# Altium footprint library PcbLib1.PcbLib: 16 footprints
Each footprint in its own frame and in the unit in brackets; x right, y up, seen from the top. Pads: shape width x height; smd on the part's side, far side on the other; paste and mask are expansions set on the pad; w line width, h text height; cw(c..) or ccw(c..) is an arc to the next point about the centre after c.
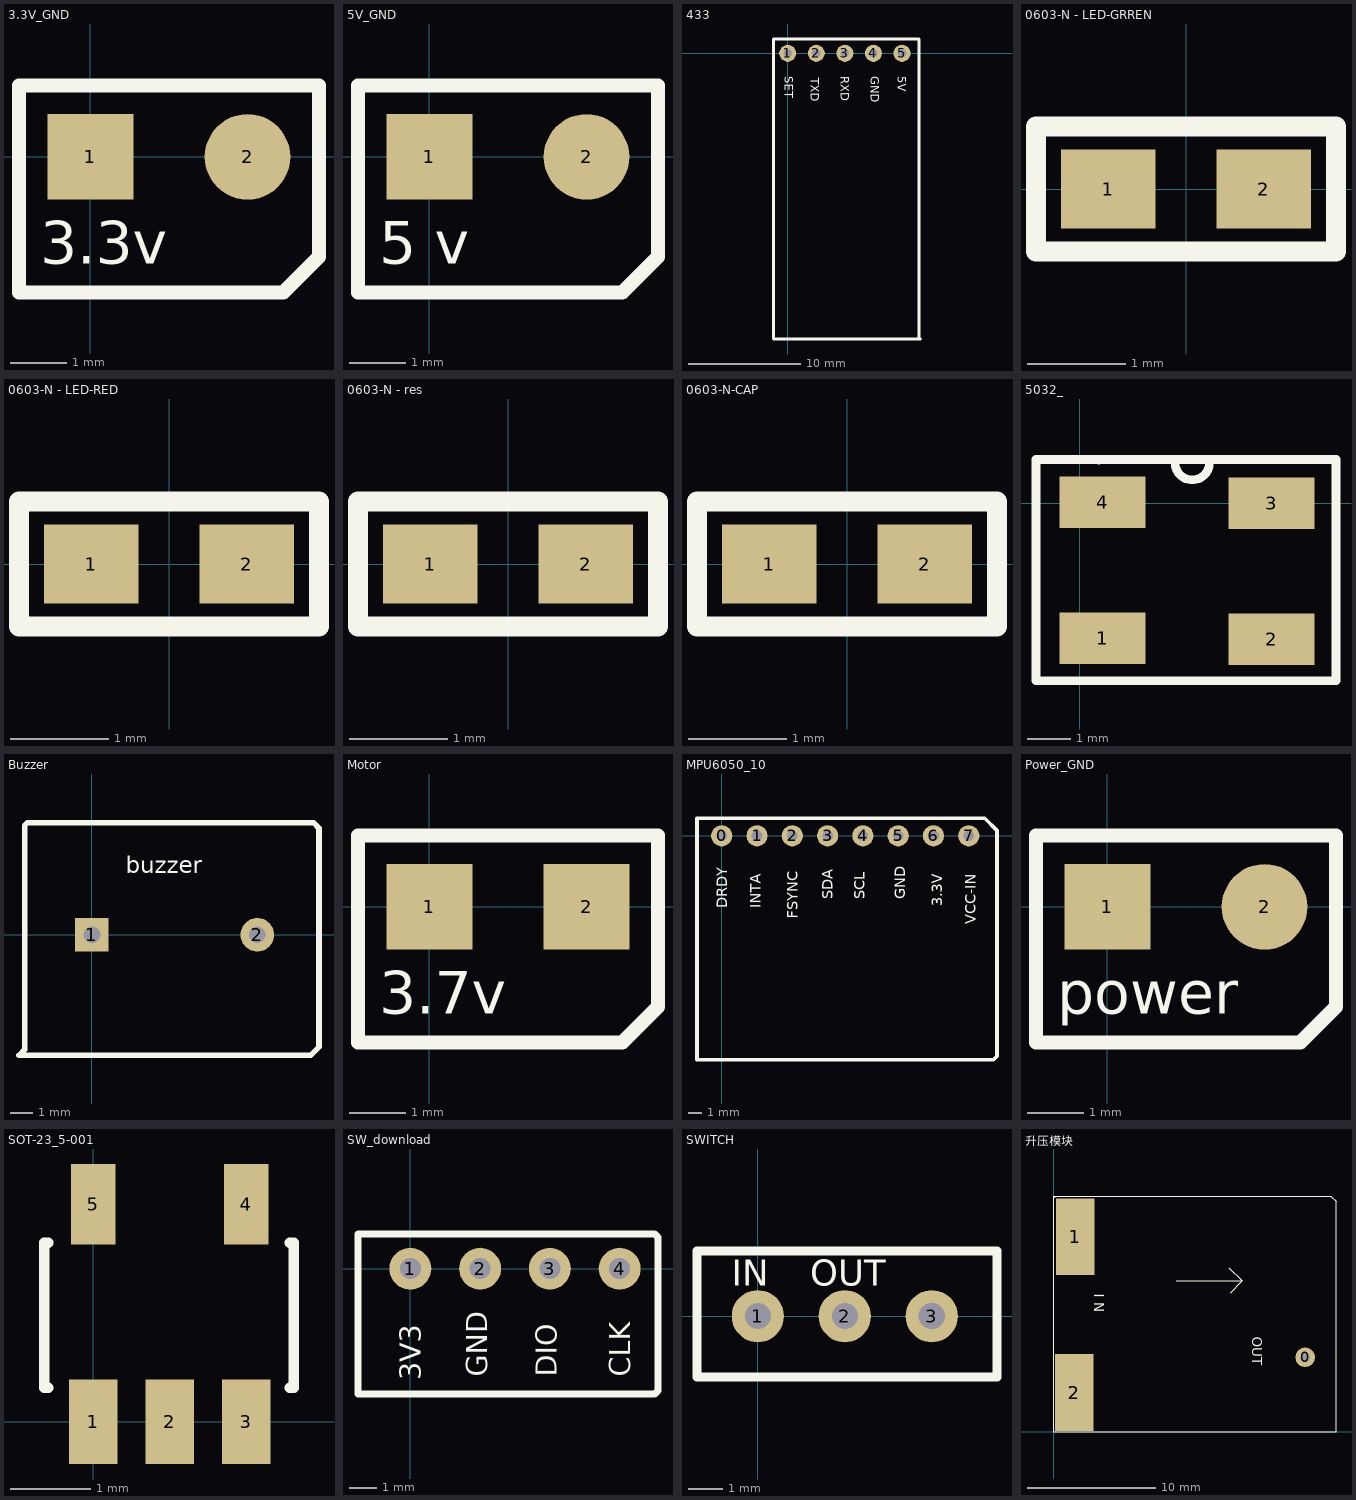
[diagram p0: the footprints below, top view; thin cyan lines are the x and y axes]

## 3.3V_GND [mil]
pads (2):
  rect 60x60 smd: 1(0,0)
  round 60 smd: 2(110,0)
Top Overlay:
  lines w10: -50,-95 -50,50 160,50 160,-70 135,-95 -50,-95
  text "3.3v" at -35,-75 h30

## 5V_GND [mil]
pads (2):
  rect 60x60 smd: 1(0,0)
  round 60 smd: 2(110,0)
Top Overlay:
  lines w10: -50,-95 -50,50 160,50 160,-70 135,-95 -50,-95
  text "5 v" at -35,-75 h30

## 433 [mil]
pads (5):
  round 60 hole 30: 1(0,0) 2(100,0) 3(200,0) 4(300,0) 5(400,0)
Top Overlay:
  lines w10: 460,-1000 460,50 -50,50 -50,-1000 465,-1000
  text "SET" at -10,-80 h30
  text "TXD" at 80,-85 h30
  text "RXD" at 185,-80 h30
  text "GND" at 290,-80 h30
  text "5V" at 385,-80 h30

## 0603-N - LED-GRREN [mm]
pads (2):
  rect 0.96x0.8 smd: 1(-0.79,0) 2(0.79,0)
Top Overlay:
  lines w0.2: -1.524,-0.635 -1.524,-0.154 -1.524,0.635 1.524,0.635 1.524,-0.635 -1.524,-0.635
3D body "User Library-LED_0603_G.STEP": height 0.6, standoff 0, extent -0.8,-0.4 0.8,0.4

## 0603-N - LED-RED [mm]
pads (2):
  rect 0.96x0.8 smd: 1(-0.79,0) 2(0.79,0)
Top Overlay:
  lines w0.2: -1.524,-0.635 -1.524,-0.154 -1.524,0.635 1.524,0.635 1.524,-0.635 -1.524,-0.635
3D body "User Library-LED_0603_R.STEP": height 0.6, standoff 0, extent -0.8,-0.4 0.8,0.4

## 0603-N - res [mm]
pads (2):
  rect 0.96x0.8 smd: 1(-0.79,0) 2(0.79,0)
Top Overlay:
  lines w0.2: -1.524,-0.635 -1.524,-0.154 -1.524,0.635 1.524,0.635 1.524,-0.635 -1.524,-0.635
3D body "User Library-res0603-1.STEP": height 0.4, standoff 0, extent -0.8,-0.4 0.8,0.4

## 0603-N-CAP [mm]
pads (2):
  rect 0.96x0.8 smd: 1(-0.79,0) 2(0.79,0)
Top Overlay:
  lines w0.2: -1.524,-0.635 -1.524,-0.154 -1.524,0.635 1.524,0.635 1.524,-0.635 -1.524,-0.635
3D body "SW3dPS-0603 SMD Capacitor.STEP": height 0.3, standoff 0, extent -0.8,-0.4 0.8,0.4

## 5032_ [mm]
pads (4):
  rect 2x1.2 smd: 1(0.533,-3.15) 2(4.47,-3.175) 3(4.47,0) 4(0.533,0.025)
Top Overlay:
  lines w0.2: 0.446,1.004 0.457,1.016 5.969,1.016 5.969,-4.14 -1.016,-4.14 -1.016,1.016 1.676,1.016 ; 2.223,0.94 ccw(c2.623,0.94) 3.023,0.94
3D body: height 0.8, standoff 0.1, extent -0.025,-3.15 5.004,0.051

## Buzzer [mil]
pads (2):
  rect 60x60 hole 30: 1(0,0)
  round 60 hole 30: 2(295,0)
Top Overlay:
  lines w10: -130,-215 -120,-205 -120,195 -115,200 -50,200 395,200 405,190 405,-200 390,-215 -130,-215
  text "buzzer" at 60,110 h30

## Motor [mil]
pads (2):
  rect 60x60 smd: 1(0,0) 2(110,0)
Top Overlay:
  lines w10: -50,-95 135,-95 160,-70 160,50 -50,50 -50,-95
  text "3.7v" at -35,-75 h30

## MPU6050_10 [mil] "mpu6050_10轴传感器"
pads (8):
  round 60 hole 30: 0(0,0) 1(100,0) 2(200,0) 3(300,0) 4(400,0) 5(500,0) 6(600,0) 7(700,0)
Top Overlay:
  lines w10: -70,-635 -70,50 745,50 780,15 780,-625 770,-635 -70,-635
  text "VCC-IN" at 720,-250 h30
  text "3.3V" at 625,-200 h30
  text "GND" at 520,-180 h30
  text "SCL" at 405,-180 h30
  text "SDA" at 315,-180 h30
  text "FSYNC" at 215,-235 h30
  text "INTA" at 110,-205 h30
  text "DRDY" at 15,-205 h30

## Power_GND [mil]
pads (2):
  rect 60x60 smd: 1(0,0)
  round 60 smd: 2(110,0)
Top Overlay:
  lines w10: -50,-95 135,-95 160,-70 160,50 -50,50 -50,-95
  text "power" at -35,-75 h30

## SOT-23_5-001 [mm]
height 1.45
pads (5):
  rect 0.6x1.05 smd: 1(0,0) 2(0.95,0) 3(1.9,0)
  rect 0.55x1 smd: 4(1.9,2.7) 5(0,2.7)
Top Overlay:
  lines w0.127: -0.56,0.421 -0.61,0.421 -0.61,2.221 -0.56,2.221 ; 2.44,0.421 2.49,0.421 2.49,2.221 2.44,2.221
3D body "User Library-SOT23-5.STEP": height 1.09, standoff -0.01, extent -0.486,-0.003 2.413,2.797

## SW_download [mil]
pads (4):
  round 60 hole 30: 1(0,0) 2(100,0) 3(200,0) 4(300,0)
Top Overlay:
  lines w10: -75,-180 350,-180 355,-175 355,45 350,50 -75,50 -75,-180
  text "CLK" at 315,-155 h30
  text "DIO" at 210,-155 h30
  text "GND" at 110,-155 h30
  text "3V3" at 15,-160 h30

## SWITCH [mil]
pads (3):
  round 60 hole 30: 1(0,0) 2(100,0) 3(200,0)
Top Overlay:
  lines w10: -70,-70 275,-70 275,75 -70,75 -70,-70
  text "OUT" at 60,35 h30
  text "IN" at -30,35 h30

## 升压模块 [mm] "升到5V"
pads (3):
  round 1.524 hole 0.762: 0(19.6,5.8)
  rect 3x6 smd: 1(1.65,15.2) 2(1.6,3.05)
Top Overlay:
  lines w0.05: 0.05,18.3 0,18.35 ; 9.55,11.75 14.7,11.75 ; 13.65,12.8 14.7,11.75 ; 13.8,10.85 14.7,11.75 ; 0,18.35 21.6,18.35 22,17.95 22,0 0,0 0,18.35 ; 14.7,11.75 14.7,11.75
  text "OUT" at 15.45,7.4 h0.76
  text "I N" at 3.15,10.75 h0.76